# EAGLE library part SX70-7-PAD (library _openSX70)
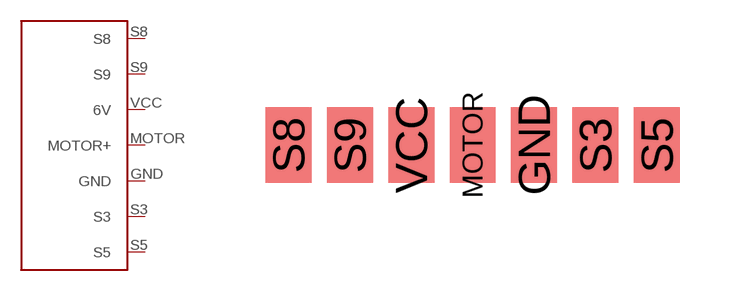
[diagram p17: symbol with the pads of SX70-7-PAD-PROPER; footprint SX70-7-PAD-PROPER]

Designator prefix -

## SX70-7-PAD  [SX70-7-PAD-PROPER]
GND  GND
MOTOR  MOTOR+
S3  S3
S5  S5
S8  S8
S9  S9
VCC  6V

## Footprint SX70-7-PAD-PROPER (pad centres in mm)
smd 1.31 x 2.159: GND 7.875,1.312; MOTOR 6.125,1.312; S3 9.625,1.312; S5 11.375,1.312; S8 0.875,1.312; S9 2.625,1.312; VCC 4.375,1.312